# Altium schematic symbol library BMP390.SchLib: 1 symbol
Pins are listed as number, name and electrical type; pins without a type are passive.

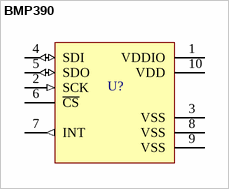
[diagram p0: symbol BMP390]

## BMP390
designator U?
Absolute Pressure Sensor 4.35PSI ~ 18.13PSI (30kPa ~ 125kPa)
pins: 1 VDDIO (power), 2 SCK (in), 3 VSS (power), 4 SDI (io), 5 SDO (io), 6 ~{CS}, 7 INT (out), 8 VSS (power), 9 VSS (power), 10 VDD (power)